# Altium footprint library hand_fpc.PcbLib: 9 footprints
Each footprint in its own frame and in the unit in brackets; x right, y up, seen from the top. Pads: shape width x height; smd on the part's side, far side on the other; paste and mask are expansions set on the pad; w line width, h text height; cw(c..) or ccw(c..) is an arc to the next point about the centre after c.
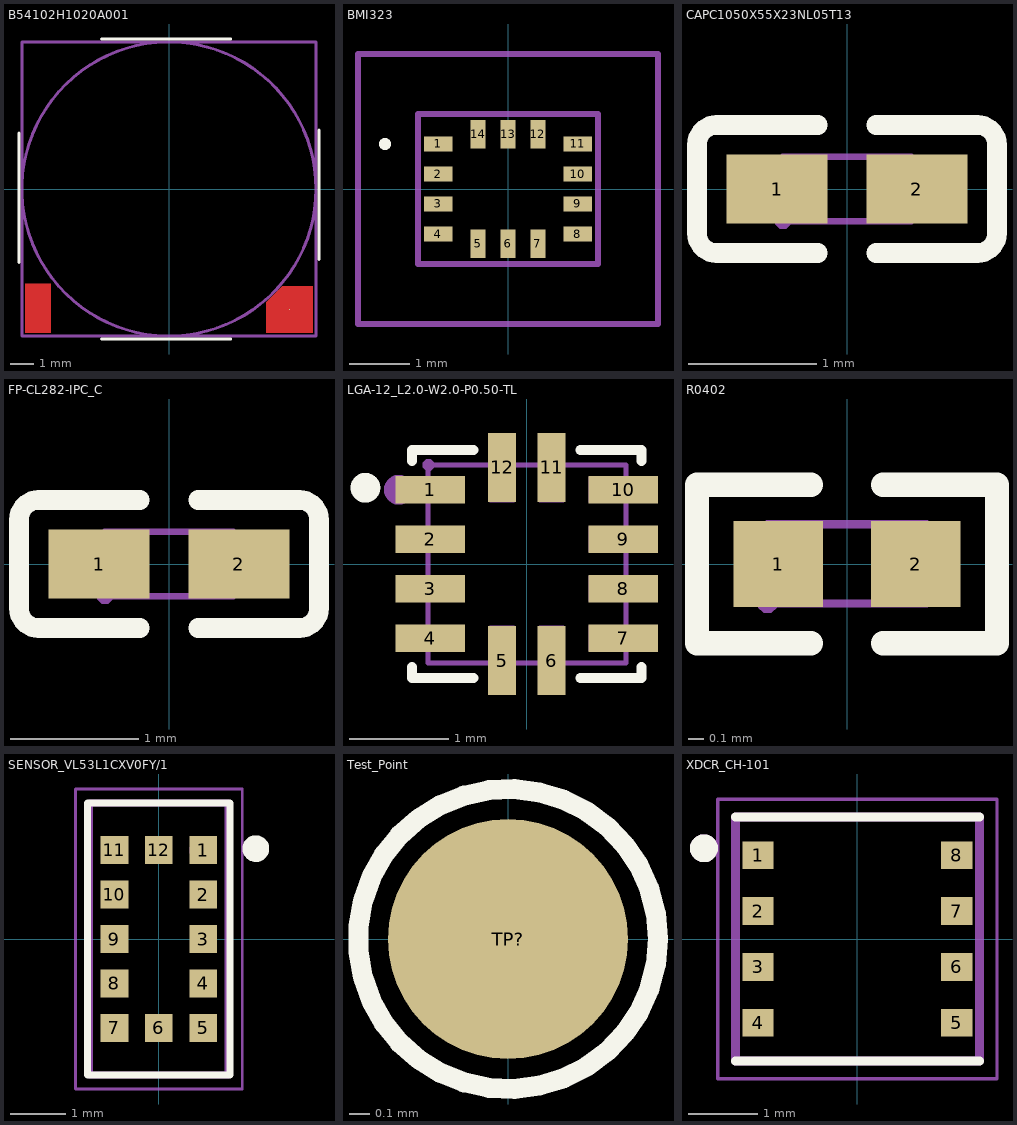
[diagram p0: the footprints below, top view; thin cyan lines are the x and y axes]

## B54102H1020A001 [mm] "The footprint of TDK PowerHap"
height 0.65
pads (2):
  round 0.025 smd: 1(5.2,-5.2) 2(-5.65,-5.15)
Top Layer:
  region: -6.2,-6.2 -5.1,-6.2 -5.1,-4.1 -6.2,-4.1
  region: 4.2,-6.2 6.2,-6.2 6.2,-4.2 4.9,-4.2 4.2,-4.9
Top Overlay:
  lines w0.127: -6.477,-3.175 -6.477,2.413 ; -2.921,-6.477 2.667,-6.477 ; -2.921,6.477 2.667,6.477 ; 6.477,-3.048 6.477,2.54
Mechanical 13:
  circle w0.127: c0,0 r6.35
  lines w0.127: -6.35,-6.35 6.35,-6.35 6.35,6.35 -6.35,6.35 -6.35,-6.35
3D body "B54102H1020A001.stp": height 1.43, standoff -0.37, extent -6.42,-6.37 6.36,6.37

## BMI323 [mm]
height 0.65
pads (14):
  rect 0.475x0.25 smd: 1(-1.163,0.75) 2(-1.163,0.25) 3(-1.163,-0.25) 4(-1.163,-0.75) 8(1.163,-0.75) 9(1.163,-0.25) 10(1.163,0.25) 11(1.163,0.75)
  rect 0.25x0.475 smd: 5(-0.5,-0.913) 6(0,-0.913) 7(0.5,-0.913) 12(0.5,0.913) 13(0,0.913) 14(-0.5,0.913)
Top Overlay:
  lines w0.1: -2.1,0.75 cw(c-2.05,0.75) -2,0.75 cw(c-2.05,0.75) -2.1,0.75
Mechanical 13:
  lines w0.1: -1.5,-1.25 -1.5,1.25 1.5,1.25 1.5,-1.25 -1.5,-1.25
Mechanical 15:
  lines w0.1: -2.5,-2.25 -2.5,2.25 2.5,2.25 2.5,-2.25 -2.5,-2.25
3D body "BMI323.stp": height 0.84, standoff 0, extent -1.5,-1.25 1.5,1.25

## CAPC1050X55X23NL05T13 [mm]
height 0.65
pads (2):
  rect 0.79x0.54 smd paste-100 mask+0.051: 1(-0.545,0) 2(0.545,0)
Top Overlay:
  lines w0.152: -0.226,-0.499 -1.016,-0.499 cw(c-1.016,-0.346) -1.169,-0.346 -1.169,0.346 cw(c-1.016,0.346) -1.016,0.499 -0.226,0.499 ; 0.226,-0.499 1.016,-0.499 ccw(c1.016,-0.346) 1.169,-0.346 1.169,0.346 ccw(c1.016,0.346) 1.016,0.499 0.226,0.499
Top Paste:
  region: 0.78,0.225 0.78,-0.225 0.73,-0.275 0.25,-0.275 0.18,-0.225 0.18,0.225 0.25,0.275 0.73,0.275
  region: -0.18,0.225 -0.18,-0.225 -0.25,-0.275 -0.73,-0.275 -0.78,-0.225 -0.78,0.225 -0.73,0.275 -0.25,0.275
Mechanical 15:
  region: -0.44,-0.25 -0.44,-0.225 -0.475,-0.19 -0.525,-0.19 -0.56,-0.225 -0.56,-0.25 -0.56,-0.275 -0.525,-0.31 -0.475,-0.31 -0.44,-0.275 -0.44,-0.25
  region: 0.5,-0.25 0.5,0.25 0.25,0.25 0.25,-0.25
  region: -0.5,-0.25 -0.5,0.25 -0.25,0.25 -0.25,-0.25
  lines w0.051: -0.5,-0.25 0.5,-0.25 0.5,0.25 -0.5,0.25 -0.5,-0.25

## FP-CL282-IPC_C [mm]
pads (2):
  rect 0.79x0.54 smd paste-100 mask+0.051: 1(-0.545,0) 2(0.545,0)
Top Overlay:
  lines w0.152: -0.226,-0.499 -1.016,-0.499 cw(c-1.016,-0.346) -1.169,-0.346 -1.169,0.346 cw(c-1.016,0.346) -1.016,0.499 -0.226,0.499 ; 0.226,-0.499 1.016,-0.499 ccw(c1.016,-0.346) 1.169,-0.346 1.169,0.346 ccw(c1.016,0.346) 1.016,0.499 0.226,0.499
Top Paste:
  region: -0.18,0.225 -0.18,-0.225 -0.25,-0.275 -0.73,-0.275 -0.78,-0.225 -0.78,0.225 -0.73,0.275 -0.25,0.275
  region: 0.78,0.225 0.78,-0.225 0.73,-0.275 0.25,-0.275 0.18,-0.225 0.18,0.225 0.25,0.275 0.73,0.275
Mechanical 15:
  region: -0.5,-0.25 -0.5,0.25 -0.25,0.25 -0.25,-0.25
  region: 0.5,-0.25 0.5,0.25 0.25,0.25 0.25,-0.25
  region: -0.44,-0.25 -0.44,-0.225 -0.475,-0.19 -0.525,-0.19 -0.56,-0.225 -0.56,-0.25 -0.56,-0.275 -0.525,-0.31 -0.475,-0.31 -0.44,-0.275 -0.44,-0.25
  lines w0.051: -0.5,-0.25 -0.5,0.25 0.5,0.25 0.5,-0.25 -0.5,-0.25

## LGA-12_L2.0-W2.0-P0.50-TL [mm]
height 0.65
pads (12):
  rect 0.7x0.28 smd: 1(-0.975,0.75) 2(-0.975,0.25) 3(-0.975,-0.25) 4(-0.975,-0.75) 7(0.975,-0.75) 8(0.975,-0.25) 9(0.975,0.25) 10(0.975,0.75)
  rect 0.28x0.7 smd: 5(-0.25,-0.975) 6(0.25,-0.975) 11(0.25,0.975) 12(-0.25,0.975)
Top Overlay:
  circle w0.15: c-1.63,0.77 r0.075
  lines w0.1: -1.16,-1.04 -1.16,-1.15 -0.54,-1.15 ; -1.16,1.04 -1.16,1.15 -0.54,1.15 ; 0.54,-1.15 1.16,-1.15 1.16,-1.04 ; 0.54,1.15 1.16,1.15 1.16,1.04
Mechanical 6:
  circle w0.15: c-1.292,0.75 r0.075
Mechanical 15:
  region: -0.375,0.625 -0.375,0.9 -0.125,0.9 -0.125,0.625
  region: 0.125,0.625 0.125,0.9 0.375,0.9 0.375,0.625
  region: 0.125,-0.9 0.125,-0.625 0.375,-0.625 0.375,-0.9
  region: -0.375,-0.9 -0.375,-0.625 -0.125,-0.625 -0.125,-0.9
  region: 0.9,0.875 0.9,0.625 0.625,0.625 0.625,0.875
  region: 0.625,0.125 0.625,0.375 0.9,0.375 0.9,0.125
  region: 0.625,-0.375 0.625,-0.125 0.9,-0.125 0.9,-0.375
  region: 0.9,-0.625 0.9,-0.875 0.625,-0.875 0.625,-0.625
  region: -0.625,-0.625 -0.625,-0.875 -0.9,-0.875 -0.9,-0.625
  region: -0.9,-0.375 -0.9,-0.125 -0.625,-0.125 -0.625,-0.375
  region: -0.9,0.125 -0.9,0.375 -0.625,0.375 -0.625,0.125
  region: -0.625,0.875 -0.625,0.625 -0.9,0.625 -0.9,0.875
  region: -0.933,1 -0.933,1.024 -0.968,1.059 -1.017,1.059 -1.052,1.024 -1.052,1 -1.052,0.975 -1.017,0.941 -0.968,0.941 -0.933,0.975
  lines w0.051: -1,-1 -1,1 1,1 1,-1 -1,-1
3D body "KX132-1211_KNX.step": height 0.99, standoff 0, extent -1.003,-1.003 1.003,1.003

## R0402 [mm]
height 0.65
pads (2):
  rect 0.566x0.54 smd paste-100 mask+0.051: 1(-0.433,0) 2(0.433,0)
Top Overlay:
  lines w0.152: -0.226,-0.499 -0.944,-0.499 -0.944,0.499 -0.226,0.499 ; 0.226,-0.499 0.944,-0.499 0.944,0.499 0.226,0.499
Top Paste:
  region: 0.135,-0.23 0.135,0.23 0.175,0.27 0.676,0.27 0.716,0.23 0.716,-0.23 0.676,-0.27 0.175,-0.27
  region: -0.135,-0.23 -0.135,0.23 -0.175,0.27 -0.676,0.27 -0.716,0.23 -0.716,-0.23 -0.676,-0.27 -0.175,-0.27
Mechanical 15:
  region: 0.251,-0.25 0.251,0.25 0.501,0.25 0.501,-0.25
  region: -0.249,0.25 -0.249,-0.25 -0.499,-0.25 -0.499,0.25
  region: -0.44,-0.25 -0.441,-0.226 -0.476,-0.192 -0.524,-0.192 -0.559,-0.226 -0.56,-0.25 -0.559,-0.274 -0.524,-0.308 -0.476,-0.308 -0.441,-0.274
  lines w0.051: -0.5,-0.25 -0.5,0.25 0.5,0.25 0.5,-0.25 -0.5,-0.25
3D body "0402WGF5101TCE.x_t": height 0.5, standoff 0, extent -0.5,-0.246 0.5,0.254

## SENSOR_VL53L1CXV0FY/1 [mm]
height 0.65
pads (12):
  rect 0.5x0.5 smd: 1(0.8,1.6) 2(0.8,0.8) 3(0.8,0) 4(0.8,-0.8) 5(0.8,-1.6) 6(0,-1.6) 7(-0.8,-1.6) 8(-0.8,-0.8) 9(-0.8,0) 10(-0.8,0.8) 11(-0.8,1.6) 12(0,1.6)
Top Overlay:
  circle w0.24: c1.746,1.627 r0.12
  lines w0.127: -1.28,-2.45 1.28,-2.45 1.28,2.45 -1.28,2.45 -1.28,-2.45
Mechanical 13:
  circle w0.3: c0.8,1.6 r0.1
  lines w0.127: -1.25,-2.45 -1.25,2.45 1.25,2.45 1.25,-2.45 -1.25,-2.45
Mechanical 15:
  lines w0.05: -1.5,-2.7 -1.5,2.7 1.5,2.7 1.5,-2.7 -1.5,-2.7
3D body "step_temp.STEP": height 1.6, standoff 0, extent -1.25,-2.45 1.25,2.45

## Test_Point [mm] "Test Point"
height 0.03
pads (1):
  round 1.2 smd paste-0.6: TP?(0,0)
Top Overlay:
  circle w0.1: c0,0 r0.75
3D body: height 0.03, standoff 0, extent -0.6,-0.6 0.6,0.6

## XDCR_CH-101 [mm]
height 0.65
pads (8):
  rect 0.45x0.4 smd mask+0: 1(-1.425,1.2) 2(-1.425,0.4) 3(-1.425,-0.4) 4(-1.425,-1.2) 5(1.425,-1.2) 6(1.425,-0.4) 7(1.425,0.4) 8(1.425,1.2)
Top Overlay:
  circle w0.2: c-2.2,1.3 r0.1
  lines w0.127: -1.75,-1.75 1.75,-1.75 ; -1.75,1.75 1.75,1.75
Top Solder:
  region: -1.15,0.15 -1.7,0.15 -1.7,0.65 -1.15,0.65
  region: -1.15,-0.65 -1.7,-0.65 -1.7,-0.15 -1.15,-0.15
  region: -1.15,0.95 -1.7,0.95 -1.7,1.45 -1.15,1.45
  region: -1.15,-1.45 -1.7,-1.45 -1.7,-0.95 -1.15,-0.95
  region: 1.7,0.15 1.15,0.15 1.15,0.65 1.7,0.65
  region: 1.7,-0.65 1.15,-0.65 1.15,-0.15 1.7,-0.15
  region: 1.7,0.95 1.15,0.95 1.15,1.45 1.7,1.45
  region: 1.7,-1.45 1.15,-1.45 1.15,-0.95 1.7,-0.95
Mechanical 13:
  circle w0.2: c-2.2,1.3 r0.1
  lines w0.127: -1.75,-1.75 1.75,-1.75 1.75,1.75 -1.75,1.75 -1.75,-1.75
Mechanical 15:
  lines w0.05: -2,-2 2,-2 2,2 -2,2 -2,-2
3D body "CH-101.x_t": height 1.26, standoff 0, extent -1.75,-1.75 1.75,1.75